# Altium schematic symbol library 803-87-040-10-001101.SchLib: 1 symbol
Pins are listed as number, name and electrical type; pins without a type are passive.

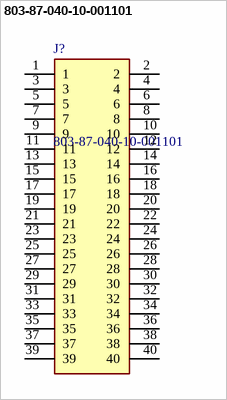
[diagram p0: symbol 803-87-040-10-001101]

## 803-87-040-10-001101
designator J?
Conn Socket Strip SKT 40 POS 2.54mm Solder ST Top Entry Thru-Hole Box; Manufacturer_Name: Preci-Dip; Geometry.Height: 7mm; Manufacturer_Part_Number: 803-87-040-10-001101; Mouser Part Number: 437-8038704010001101; Mouser Price/Stock: https://www.mouser.co.uk/ProductDetail/Preci-dip/803-87-040-10-001101?qs=q5BRkYolQ3gdlKuqU9%2F7IQ%3D%3D; Arrow Part Number: 803-87-040-10-001101; Arrow Price/Stock: https://www.arrow.com/en/products/803-87-040-10-001101/preci-dip-sa?utm_currency=USD&region=europe; Datasheet Link: https://componentsearchengine.com/Datasheets/1/803-87-040-10-001101.pdf
footprint RHDR40W76P254_2X20_5080X508X700P
pins: 1, 2, 3, 4, 5, 6, 7, 8, 9, 10, 11, 12, 13, 14, 15, 16, 17, 18, 19, 20, 21, 22, 23, 24, 25, 26, 27, 28, 29, 30, 31, 32, 33, 34, 35, 36, 37, 38, 39, 40